# Altium schematic symbol library Cap.SchLib: 16 symbols
Pins are listed as number, name and electrical type; pins without a type are passive.

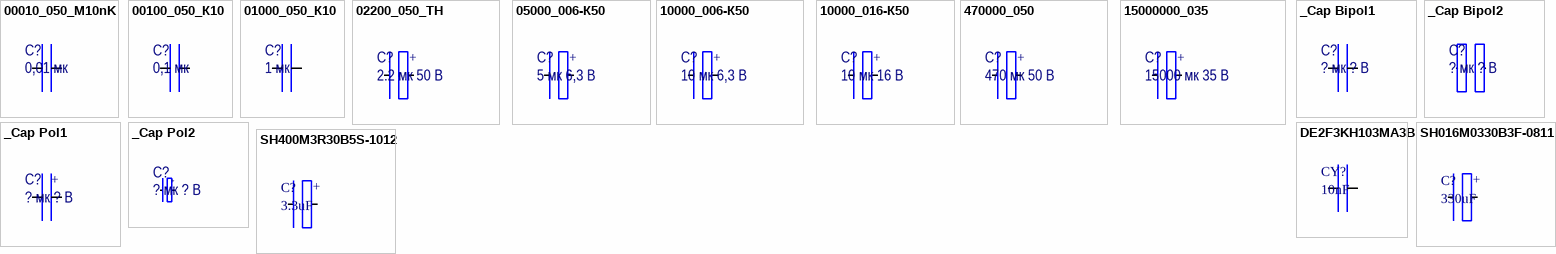
[diagram p0: symbols 00010_050_M10nK to SH400M3R30B5S-1012]

## 00010_050_M10nK
designator C?, comment 0,01 мк
0,01uF Bipolar cap pin-terminals; ManufacturerPartNumber: CN8-M10nK; Supplier: МЭК; Cost: 18; Package: not standard; ComponentLink1Description: Datasheet; ComponentLink2Description: Datasheet-local; ComponentLink2URL: *; Value: 0,01 мк; Price: Price; Note: *
footprint CN8-M10nK (CN8-M10nK Yellow Block Caps For Filter)
pins: 1, 2

## 00100_050_К10
designator C?, comment 0,1 мк
0,1uF Bipolar through-hole capacitor; ManufacturerPartNumber: К10-17б-1.00 М47 5%; Manufacturer: СССР; Supplier: Промэлектроника; Price: 0,65; Package: 0805; ComponentLink1Description: Datasheet; ComponentLink2Description: Dtasheet-local; Value: 0,1 мк; Price: Price; Note: *
footprint К-10
pins: 1, 2

## 01000_050_К10
designator C?, comment 1 мк
1uF Bipolar non-standard capacitor; ManufacturerPartNumber: К10-17б-1.00 М47 5%; Supplier: МЭК; Price: 18; Package: not standard; ComponentLink1Description: Datasheet; ComponentLink2Description: Dtasheet-local; ComponentLink2URL: *; Value: 1 мк; Price: Price; Note: *
footprint 10000_050_K10
pins: 1, 2

## 02200_050_TH
designator C?, comment 2.2 мк 50 В
2.2uF 50V Polar through-hole cap; ManufacturerPartNumber: SH050M2R20B2F-0511; Manufacturer: YAGEO; Note: 2,2 мк 50В выводной электролит; Supplier: Промэлектроника; Package: штырьевой; ComponentLink1Description: Datasheet; ComponentLink2Description: Datasheet-local; Value: 2.2 мк 50 В; Price: 2
footprint CAP_POLAR_5x11
pins: 1 -, 2 +

## 05000_006-К50
designator C?, comment 5 мк 6,3 В
5uF 6,3V Polar through-hole cap; ManufacturerPartNumber: К-50-6; Supplier: -; Price: -; Package: штырьевой; ComponentLink1Description: Datasheet; ComponentLink2Description: Datasheet-local; Value: 5 мк 6,3 В; Price: Price; Note: *
footprint К50-6
pins: 1 -, 2 +

## 10000_006-К50
designator C?, comment 10 мк 6,3 В
10uF 6,3V Polar through-hole cap; ManufacturerPartNumber: К-50-6; Supplier: -; Price: -; Package: штырьевой; ComponentLink1Description: Datasheet; ComponentLink2Description: Datasheet-local; Value: 10 мк 6,3 В; Price: Price; Note: *
footprint К50-6
pins: 1 -, 2 +

## 10000_016-К50
designator C?, comment 10 мк 16 В
10uF 16V Polar through-hole cap; ManufacturerPartNumber: К-50-6; Supplier: -; Price: -; Package: штырьевой; ComponentLink1Description: Datasheet; ComponentLink2Description: Datasheet-local; Value: 10 мк 16 В; Price: Price; Note: *
footprint К50-6
pins: 1 -, 2 +

## 470000_050
designator C?, comment 470 мк 50 В
470uF 50V Polar capacitor; ManufacturerPartNumber: CA035M0220REG; Manufacturer: Yageo; Supplier: Промэлектроника; Price: 20,14; Package: not standard; ComponentLink1Description: Datasheet; ComponentLink1URL: http://www.promelec.ru/pdf/CA_2011.pdf; ComponentLink2Description: Datasheet-local; ComponentLink2URL: *; Value: 470 мк 50 В; Price: Price; Note: *
footprint CAP_POLAR_10x12 (Polar through-hole capactitor 10mm diamiter)
pins: 1 -, 2 +

## 15000000_035
designator C?, comment 15000 мк 35 В
15000uF 6,3V Polar through-hole cap; ManufacturerPartNumber: LG035M15K0BPF-3045; Supplier: Промэлектроника; Price: -; Package: штырьевой; ComponentLink1Description: Datasheet-general; ComponentLink1URL: http://www.yageo.com/documents/recent/E-Cap_LargeCan_LG_2011_v2.pdf; ComponentLink2Description: Datasheet-2; Value: 15000 мк 35 В; Price: Price; Note: *
footprint CAP_POLAR_30x50 (Корпус электролитического конденсатора Yageo серии LG типа 30х45)
pins: 1 -, 2 +

## _Cap Bipol1
designator C?, comment ? мк ? В
Bipolar capacitor; ManufacturerPartNumber: ?; ComponentLink1Description: Datasheet; ComponentLink2Description: Datasheet-local; ComponentLink2URL: *; Value: ? мк ? В; Price: Price; Note: *
pins: 1, 2

## _Cap Bipol2
designator C?, comment ? мк ? В
Bipolar capacitor (electrolytic); ManufacturerPartNumber: ?; ComponentLink1Description: Datasheet; ComponentLink2Description: Datasheet-local; ComponentLink2URL: *; Value: ? мк ? В; Price: Price; Note: *
pins: 1, 2

## _Cap Pol1
designator C?, comment ? мк ? В
Polar capacitor; ManufacturerPartNumber: ?; ComponentLink1Description: Datasheet; ComponentLink2Description: Datasheet-local; ComponentLink2URL: *; Value: ? мк ? В; Price: Price; Note: *
pins: 1 -, 2 +

## _Cap Pol2
designator C?, comment ? мк ? В
Polar capacitor; ManufacturerPartNumber: ?; ComponentLink1Description: Datasheet; ComponentLink2Description: Datasheet-local; ComponentLink2URL: *; Value: ? мк ? В; Price: Price; Note: *
pins: 1 +, 2 -

## DE2F3KH103MA3B
designator CY?, comment 10nF
CAP CER 10000PF 250VAC RADIAL; Manufacturer: Murata; Manufacturer Part Number: DE2F3KH103MA3B; Tolerance: 20%; Voltage Rating (AC): 300V; Voltage Rating: 250V; Lead/Base Style: Formed Leads; Lead Diameter: 0.6mm; Lead Length: 25mm; Supplier 1: Digi-Key; Stock 1: 123; Pricing 1: 1=0.64, 10=0.468, 50=0.3748, 100=0.3212, 250=0.2944, 500=0.2543, 1000=0.2099, 5000=0.1837, 10000=0.1771 (USD); Mount: Through Hole; Case/Package: Radial; Number of Pins: 2; Min Operating Temperature: -25°C; Max Operating Temperature: 125°C; Value: 10nF; Termination: Radial; Package Quantity: 100; Packaging: Bulk; Composition: Ceramic; Voltage: 250V; Voltage Rating (DC): 250V; Length: 16mm; Lead Pitch: 7.5mm; Width: 8mm; Height - Seated (Max): 0.748inch; Depth: 7mm; Radiation Hardening: No; REACH SVHC: No SVHC; Lead Free: Lead Free; ComponentLink1URL: https://datasheet.ciiva.com/11789/0900766b80ef2db7-11789770.pdf; ComponentLink1Description: https://datasheet.ciiva.com/11789/0900766b80ef2db7-11789770.pdf; ComponentLink2URL: https://datasheet.ciiva.com/18099/getdatasheetpartid-93145-18099342.pdf; ComponentLink2Description: https://datasheet.ciiva.com/18099/getdatasheetpartid-93145-18099342.pdf; ComponentLink3URL: https://datasheet.ciiva.com/22625/1784398-22625351.pdf; ComponentLink3Description: https://datasheet.ciiva.com/22625/1784398-22625351.pdf; ComponentLink4URL: https://datasheet.ciiva.com/143/c85e-143296.pdf; ComponentLink4Description: https://datasheet.ciiva.com/143/c85e-143296.pdf; ComponentLink5URL: https://datasheet.ciiva.com/5384/product-5384064.pdf; ComponentLink5Description: https://datasheet.ciiva.com/5384/product-5384064.pdf; ComponentLink6URL: https://datasheet.ciiva.com/2990/product-2990239.pdf; ComponentLink6Description: https://datasheet.ciiva.com/2990/product-2990239.pdf; ComponentLink7URL: https://datasheet.ciiva.com/7718/1784398-7718842.pdf; ComponentLink7Description: https://datasheet.ciiva.com/7718/1784398-7718842.pdf; ComponentLink8URL: https://datasheet.ciiva.com/17431/product-17431466.pdf; ComponentLink8Description: https://datasheet.ciiva.com/17431/product-17431466.pdf; Supplier Part Number 1: 490-4217-ND
footprint Y1-CAP
pins: 1, 2

## SH016M0330B3F-0811
designator C?, comment 330uF
330uF, 16V Polar cap; Manufacturer: Yageo; Manufacturer Part Number: SH016M0330B3F-0811; Tolerance: 20%; Ripple Current: 315mA; Supplier 1: Avnet; Stock 1: 0; Mount: Through Hole; Case/Package: Radial; Min Operating Temperature: -40°C; Max Operating Temperature: 105°C; Value: 330uF; Termination: Radial; Diameter: 8mm; Height: 11mm; Lead Pitch: 3.5mm; Radiation Hardening: No; ComponentLink1URL: https://datasheet.ciiva.com/28435/e-cap-miniature-sh-2011-28435839.pdf; ComponentLink1Description: https://datasheet.ciiva.com/28435/e-cap-miniature-sh-2011-28435839.pdf; ComponentLink2URL: https://datasheet.ciiva.com/17497/e-cap-miniature-sh-2011-17497868.pdf; ComponentLink2Description: https://datasheet.ciiva.com/17497/e-cap-miniature-sh-2011-17497868.pdf; Supplier Part Number 1: SH016M0330B3F-0811
footprint CAP_POLAR_8x11
pins: 1 -, 2 +

## SH400M3R30B5S-1012
designator C?, comment 3.3uF
3.3uF 400V 20% (10 X 12mm) Radial 5mm 49mA 2000 hr 105C Bulk; Manufacturer: Yageo; Manufacturer Part Number: SH400M3R30B5S-1015; Supplier 1: Avnet; Stock 1: 0; Mount: Through Hole; Case/Package: Radial; Min Operating Temperature: -25°C; Max Operating Temperature: 105°C; Value: 3.3uF; Tolerance: 20%; Ripple Current: 49mA; Termination: Radial; Diameter: 10mm; Height: 12mm; Lead Pitch: 5mm; Supplier Part Number 1: SH400M3R30B5S-1015
footprint CAP_POLAR_10x12 (Polar through-hole capactitor 10mm diamiter)
pins: 1 -, 2 +